# Altium schematic symbol library ADuM5240.Schlib: 1 symbol
Pins are listed as number, name and electrical type; pins without a type are passive.

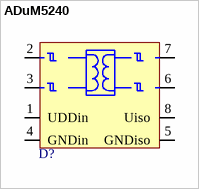
[diagram p0: symbol ADuM5240]

## ADuM5240
designator D?  (value not drawn)
isoPower 2-channal isolator
footprint SO-8
pins: 1 UDDin (power), 2, 3, 4 GNDin (power), 5 GNDiso, 6 OUT, 7 EN, 8 Uiso "10mA output power"